# Altium footprint library OpenPLCv0.2.0_IC.PcbLib: 9 footprints
Each footprint in its own frame and in the unit in brackets; x right, y up, seen from the top. Pads: shape width x height; smd on the part's side, far side on the other; paste and mask are expansions set on the pad; w line width, h text height; cw(c..) or ccw(c..) is an arc to the next point about the centre after c.
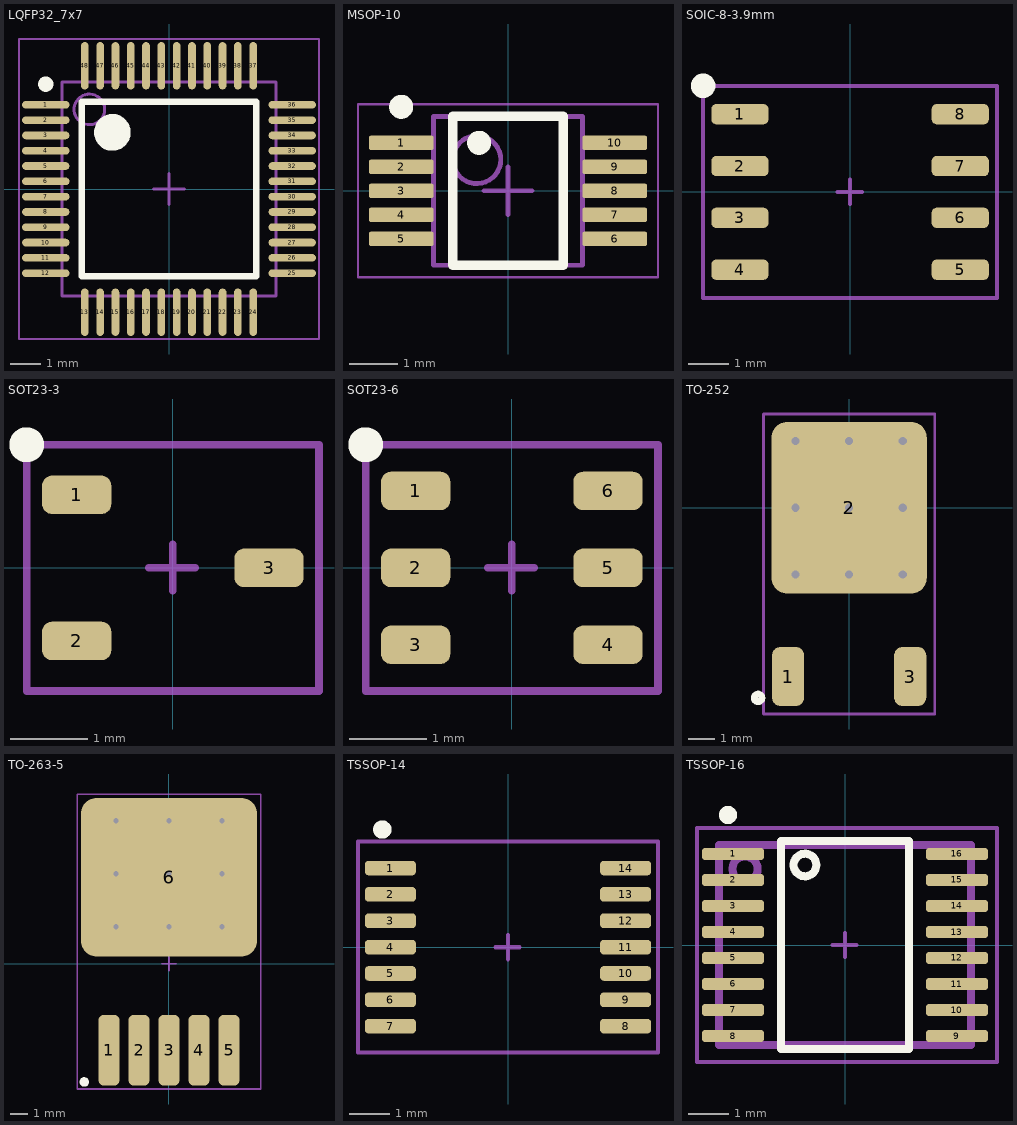
[diagram p0: the footprints below, top view; thin cyan lines are the x and y axes]

## LQFP32_7x7 [mm]
height 1.6
pads (48):
  oval 1.55x0.25 smd: 1(-4.025,2.75) 2(-4.025,2.25) 3(-4.025,1.75) 4(-4.025,1.25) 5(-4.025,0.75) 6(-4.025,0.25) 7(-4.025,-0.25) 8(-4.025,-0.75) 9(-4.025,-1.25) 10(-4.025,-1.75) 11(-4.025,-2.25) 12(-4.025,-2.75) 25(4.025,-2.75) 26(4.025,-2.25) 27(4.025,-1.75) 28(4.025,-1.25) 29(4.025,-0.75) 30(4.025,-0.25) 31(4.025,0.25) 32(4.025,0.75) 33(4.025,1.25) 34(4.025,1.75) 35(4.025,2.25) 36(4.025,2.75)
  oval 0.25x1.55 smd: 13(-2.75,-4.025) 14(-2.25,-4.025) 15(-1.75,-4.025) 16(-1.25,-4.025) 17(-0.75,-4.025) 18(-0.25,-4.025) 19(0.25,-4.025) 20(0.75,-4.025) 21(1.25,-4.025) 22(1.75,-4.025) 23(2.25,-4.025) 24(2.75,-4.025) 37(2.75,4.025) 38(2.25,4.025) 39(1.75,4.025) 40(1.25,4.025) 41(0.75,4.025) 42(0.25,4.025) 43(-0.25,4.025) 44(-0.75,4.025) 45(-1.25,4.025) 46(-1.75,4.025) 47(-2.25,4.025) 48(-2.75,4.025)
Top Overlay:
  circle w0.25: c-4.025,3.425 r0.125
  circle w0.6: c-1.85,1.85 r0.3
  lines w0.2: -2.85,-2.85 -2.85,2.85 2.85,2.85 2.85,-2.85 -2.85,-2.85
Top Assembly:
  circle w0.1: c-2.6,2.6 r0.5
  lines w0.1: -3.5,-3.5 -3.5,3.5 3.5,3.5 3.5,-3.5 -3.5,-3.5
Top Courtyard (Mech15):
  lines w0.05: -4.9,-4.9 -4.9,4.9 4.9,4.9 4.9,-4.9 -4.9,-4.9
  lines w0.1: -0.5,0 0.5,0 ; 0,-0.5 0,0.5
3D body "qfp50p-7mmx7mm-48 v1.step": height 1, standoff 0, extent -4.5,-4.5 4.5,4.5

## MSOP-10 [mm] "TSSOP, 10-Leads, Body 3.00x3.00mm, Pitch 0.50mm, IPC Medium Density"
height 1.1
pads (10):
  rrect30% 1.35x0.3 smd: 1(-2.225,1) 2(-2.225,0.5) 3(-2.225,0) 4(-2.225,-0.5) 5(-2.225,-1) 6(2.225,-1) 7(2.225,-0.5) 8(2.225,0) 9(2.225,0.5) 10(2.225,1)
Top Overlay:
  circle w0.25: c-2.225,1.75 r0.125
  circle w0.3: c-0.6,1 r0.1
  lines w0.2: -1.15,-1.55 -1.15,1.55 1.15,1.55 1.15,-1.55 -1.15,-1.55
Top Assembly:
  circle w0.1: c-0.65,0.65 r0.5
  lines w0.1: -1.55,-1.55 -1.55,1.55 1.55,1.55 1.55,-1.55 -1.55,-1.55
Top Courtyard (Mech15):
  lines w0.05: -3.125,-1.8 -3.125,1.8 3.125,1.8 3.125,-1.8 -3.125,-1.8
  lines w0.1: -0.5,0 0.5,0 ; 0,-0.5 0,0.5
3D body "MSOP-10 0.50p 3mm.step": height 1, standoff 0, extent -2.45,-1.5 2.45,1.5

## SOIC-8-3.9mm [mm]
height 1.752
pads (8):
  rrect50% 1.4x0.5 smd: 1(-2.7,1.905) 2(-2.7,0.635) 3(-2.7,-0.635) 4(-2.7,-1.905) 5(2.7,-1.905) 6(2.7,-0.635) 7(2.7,0.635) 8(2.7,1.905)
Top Overlay:
  circle w0.3: c-3.6,2.6 r0.15
Top Courtyard (Mech15):
  lines w0.1: -0.312,0 0.288,0 ; 0,-0.297 0,0.303 ; -3.6,-2.6 3.6,-2.6 3.6,2.6 -3.6,2.6 -3.6,-2.6
3D body "SO8 Narrow 3.9mm.step": height 1.35, standoff 0, extent -2.99,-2.45 2.99,2.45

## SOT23-3 [mm]
height 1.1
pads (3):
  rrect50% 0.9x0.5 smd: 1(-1.25,0.95) 2(-1.25,-0.95) 3(1.25,0)
Top Overlay:
  circle w0.254: c-1.9,1.6 r0.1
Top Courtyard (Mech15):
  lines w0.1: -0.312,0 0.288,0 ; 0,-0.297 0,0.303 ; -1.9,-1.6 1.9,-1.6 1.9,1.6 -1.9,1.6 -1.9,-1.6
3D body "SOT23-3.step": height 1.1, standoff 0, extent -1.25,-1.5 1.25,1.5

## SOT23-6 [mm]
height 1.1
pads (6):
  rrect50% 0.9x0.5 smd: 1(-1.25,1) 2(-1.25,0) 3(-1.25,-1) 4(1.25,-1) 5(1.25,0) 6(1.25,1)
Top Overlay:
  circle w0.254: c-1.9,1.6 r0.1
Top Courtyard (Mech15):
  lines w0.1: -0.312,0 0.288,0 ; 0,-0.297 0,0.303 ; -1.9,-1.6 1.9,-1.6 1.9,1.6 -1.9,1.6 -1.9,-1.6
3D body "SOT23-6.stp": height 1.2, standoff 0.02, extent -1.418,-1.5 1.418,1.5

## TO-252 [mm]
height 2.39
pads (3):
  rrect50% 1.2x2.2 smd: 1(-2.28,-6.3) 3(2.28,-6.3)
  rrect20% 5.8x6.4 smd: 2(0,0)
via 2,-2.5 diameter 0.7 hole 0.3
via 2,2.5 diameter 0.7 hole 0.3
via -2,0 diameter 0.7 hole 0.3
via -2,2.5 diameter 0.7 hole 0.3
via 0,2.5 diameter 0.7 hole 0.3
via 2,0 diameter 0.7 hole 0.3
via 0,0 diameter 0.7 hole 0.3
via 0,-2.5 diameter 0.7 hole 0.3
via -2,-2.5 diameter 0.7 hole 0.3
Top Overlay:
  circle w0.254: c-3.4,-7.1 r0.141
Top Courtyard (Mech15):
  lines w0.1: -3.2,-7.7 3.2,-7.7 3.2,3.5 -3.2,3.5 -3.2,-7.7
3D body "TO252.STEP": height 2.4, standoff 0, extent -3.35,-6.6 3.15,2.5

## TO-263-5 [mm] "5 lead TO-263"
height 4.65
pads (6):
  rrect50% 1.2x4 smd: 1(-3.4,-4.9) 2(-1.7,-4.9) 3(0,-4.9) 4(1.7,-4.9) 5(3.4,-4.9)
  rrect20% 10x9 smd: 6(0,4.9)
via 0,5.1 diameter 0.7 hole 0.3
via 0,8.1 diameter 0.7 hole 0.3
via 3,8.1 diameter 0.7 hole 0.3
via 3,5.1 diameter 0.7 hole 0.3
via 3,2.1 diameter 0.7 hole 0.3
via 0,2.1 diameter 0.7 hole 0.3
via -3,2.1 diameter 0.7 hole 0.3
via -3,5.1 diameter 0.7 hole 0.3
via -3,8.1 diameter 0.7 hole 0.3
Top Overlay:
  circle w0.254: c-4.8,-6.7 r0.141
Top Courtyard (Mech15):
  lines w0.1: -0.4,0 0.4,0 ; 0,-0.4 0,0.4 ; -5.2,-7.1 5.2,-7.1 5.2,9.6 -5.2,9.6 -5.2,-7.1
3D body "TO263-5-1.stp": height 4.22, standoff 0, extent -4.911,-5.961 4.911,8.641

## TSSOP-14 [mm]
height 1.08
pads (14):
  rrect50% 1.26x0.36 smd: 1(-2.9,1.95) 2(-2.9,1.3) 3(-2.9,0.65) 4(-2.9,0) 5(-2.9,-0.65) 6(-2.9,-1.3) 7(-2.9,-1.95) 8(2.9,-1.95) 9(2.9,-1.3) 10(2.9,-0.65) 11(2.9,0) 12(2.9,0.65) 13(2.9,1.3) 14(2.9,1.95)
Top Overlay:
  circle w0.254: c-3.1,2.9 r0.1
Top Courtyard (Mech15):
  lines w0.1: -0.312,-0.003 0.288,-0.003 ; 0,-0.3 0,0.3 ; -3.7,-2.6 3.7,-2.6 3.7,2.6 -3.7,2.6 -3.7,-2.6
3D body "TSSOP-14 0.65p 4.4mm.step": height 1, standoff 0, extent -3.15,-2.5 3.15,2.5

## TSSOP-16 [mm]
height 1.08
pads (16):
  rrect50% 1.55x0.3 smd: 1(-2.8,2.275) 2(-2.8,1.625) 3(-2.8,0.975) 4(-2.8,0.325) 5(-2.8,-0.325) 6(-2.8,-0.975) 7(-2.8,-1.625) 8(-2.8,-2.275) 9(2.8,-2.275) 10(2.8,-1.625) 11(2.8,-0.975) 12(2.8,-0.325) 13(2.8,0.325) 14(2.8,0.975) 15(2.8,1.625) 16(2.8,2.275)
Top Overlay:
  circle w0.2: c-1,2 r0.283
  circle w0.254: c-2.925,3.25 r0.1
  lines w0.2: -1.6,-2.6 1.6,-2.6 1.6,2.6 -1.6,2.6 -1.6,-2.6
Top Assembly:
  circle w0.2: c-2.5,1.9 r0.316
  lines w0.2: -3.15,-2.5 -3.15,2.5 3.15,2.5 3.15,-2.5 -3.15,-2.5
Top Courtyard (Mech15):
  lines w0.1: -0.312,-0.003 0.288,-0.003 ; 0,-0.3 0,0.3 ; -3.7,-2.925 -3.7,2.925 3.8,2.925 3.8,-2.925 -3.7,-2.925
3D body "TSSOP-16 0.65p 4.4mm.step": height 1, standoff 0, extent -3.15,-2.5 3.15,2.5